# Altium footprint library PCB3.PcbLib: 13 footprints
Each footprint in its own frame and in the unit in brackets; x right, y up, seen from the top. Pads: shape width x height; smd on the part's side, far side on the other; paste and mask are expansions set on the pad; w line width, h text height; cw(c..) or ccw(c..) is an arc to the next point about the centre after c.
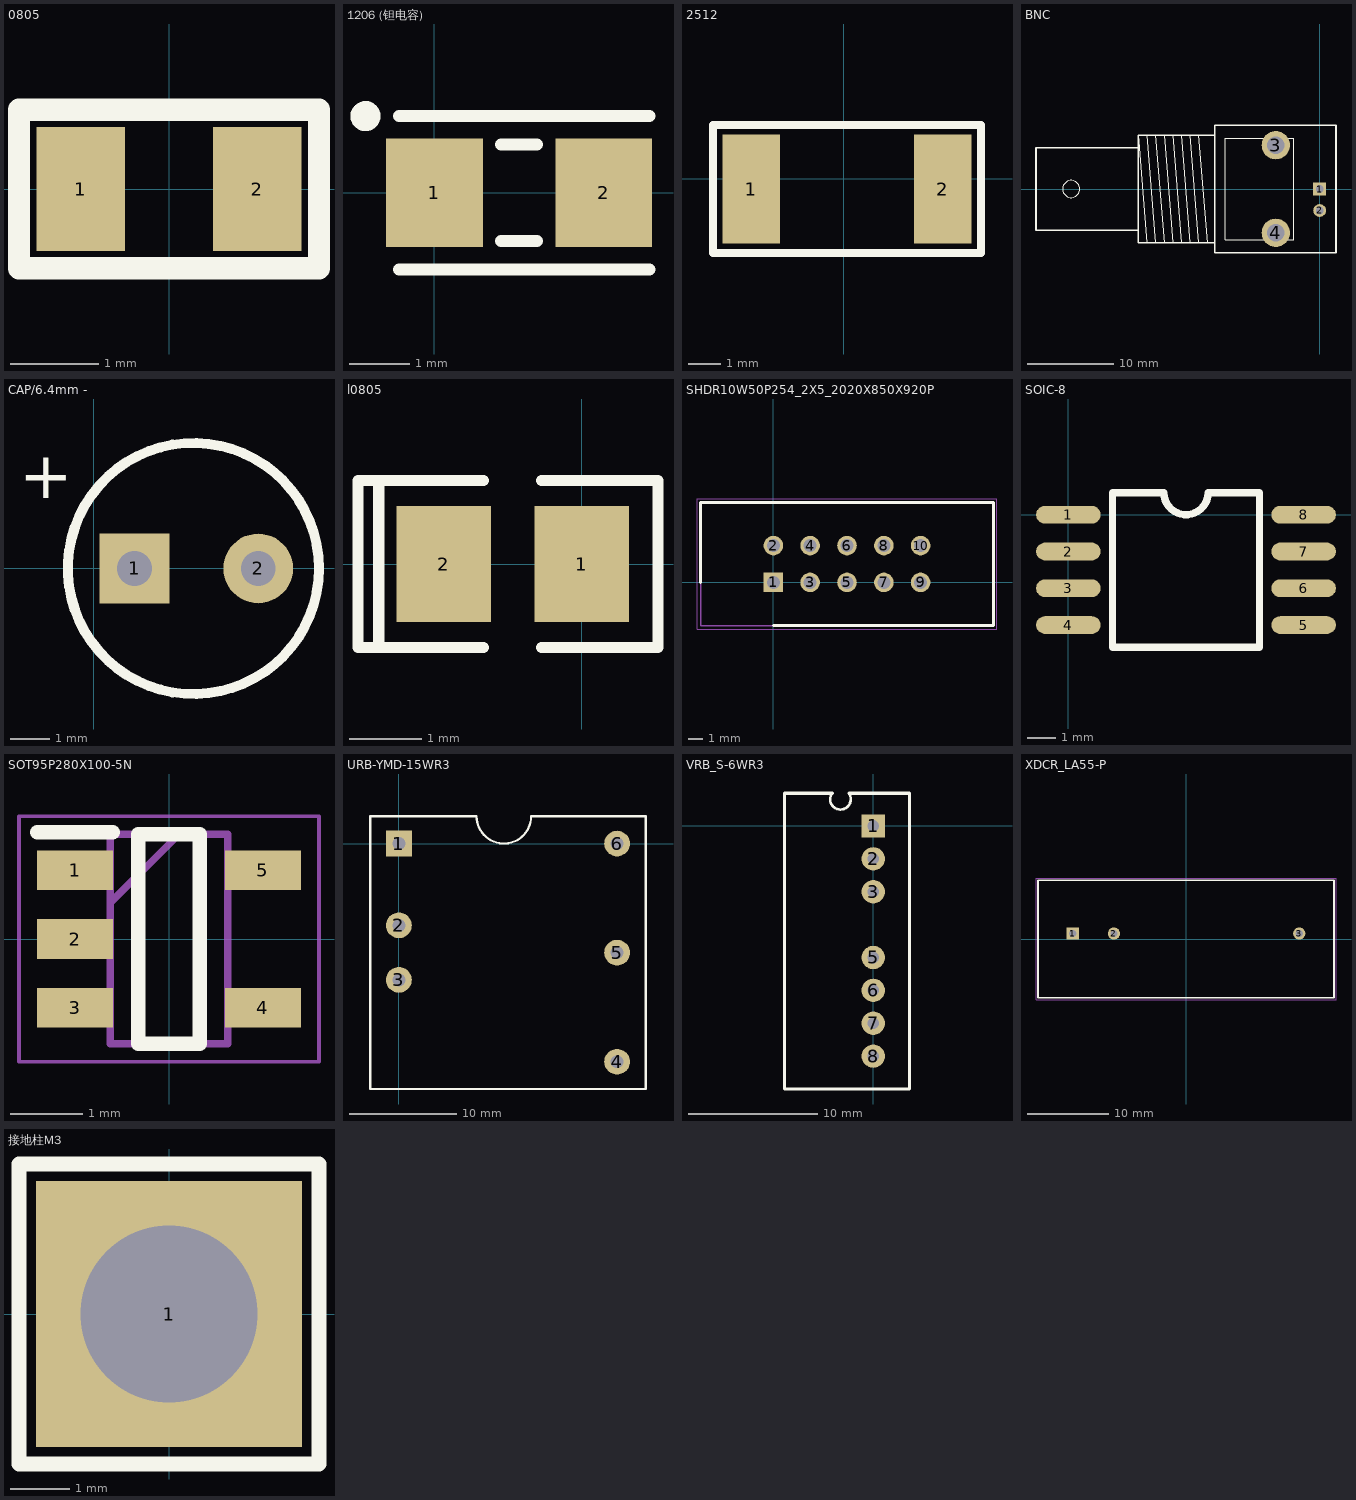
[diagram p0: the footprints below, top view; thin cyan lines are the x and y axes]

## 0805 [mm]
pads (2):
  rect 1x1.4 smd: 1(-1,0) 2(1,0)
Top Overlay:
  lines w0.254: -1.7,-0.9 1.7,-0.9 1.7,0.9 -1.7,0.9 -1.7,0 -1.7,-0.9

## 1206 (钽电容) [mm]
pads (2):
  rect 1.6x1.8 smd: 1(0,0) 2(2.8,0)
Top Overlay:
  circle w0.25: c-1.141,1.27 r0.125
  lines w0.2: -0.585,-1.27 3.556,-1.27 ; -0.585,1.27 3.556,1.27 ; 1.1,-0.8 1.7,-0.8 ; 1.1,0.8 1.7,0.8

## 2512 [mm]
pads (2):
  rect 1.8x3.4 smd: 1(-2.903,-0.324) 2(3.097,-0.324)
Top Overlay:
  lines w0.254: -4.103,-2.324 4.297,-2.324 4.297,1.676 -4.103,1.676 -4.103,-0.324 -4.103,-2.324

## BNC [mm]
pads (4):
  rect 1.5x1.5 hole 0.9: 1(0,0)
  round 1.5 hole 0.9: 2(0,-2.5)
  round 3.3 hole 2: 3(-5.1,5.1) 4(-5.1,-5.1)
Top Overlay:
  circle w0.025: c-28.9,0 r1
  lines w0.025: -20.1,-6.25 -21.1,6.25 ; -20.1,6.25 -19.1,-6.25 ; -19.1,6.25 -18.1,-6.25 ; -18.1,6.25 -17.1,-6.25 ; -17.1,6.25 -16.1,-6.25 ; -16.1,6.25 -15.1,-6.25 ; -15.1,6.25 -14.1,-6.25 ; -14.1,6.25 -13.1,-6.25 ; -21.1,-4.8 -33,-4.8 -33,4.8 -21.1,4.8 ; -21.1,-4.8 -21.1,4.8 ; -21.1,-4.8 -21.1,-6.25 -12.2,-6.25 ; -21.1,4.8 -21.1,6.25 ; -21.1,6.25 -12.2,6.25 ; -12.2,-6.25 -12.2,6.25 ; -12.2,-6.25 -12.2,-7.4 1.9,-7.4 1.9,7.4 -12.2,7.4 -12.2,6.25 ; -11,-5.9 -3,-5.9 -3,5.9 -11,5.9 -11,-5.9
  lines w0.2: -21.1,-4.8 -21.1,4.8 ; -21.1,-4.8 -33,-4.8 -33,4.8 -21.1,4.8 ; -21.1,-4.8 -21.1,-6.25 -12.2,-6.25 ; -21.1,4.8 -21.1,6.25 -12.2,6.25 ; -12.2,-6.25 -12.2,6.25 ; -12.2,-6.25 -12.2,-7.4 1.9,-7.4 1.9,7.4 -12.2,7.4 -12.2,6.25

## CAP/6.4mm - [mil]
pads (2):
  rect 70x70 hole 35: 1(41,0)
  round 70 hole 35: 2(165,0)
Top Overlay:
  circle w10: c100,0 r125.98
  text "+" at -75,55 h80

## l0805 [mm]
pads (2):
  rect 1.3x1.6 smd: 1(0,0) 2(-1.9,0)
Top Overlay:
  lines w0.152: -2.794,-1.15 -2.794,1.15 ; -1.35,-1.15 -3.08,-1.15 -3.08,1.15 -1.35,1.15 ; -0.55,-1.15 1.05,-1.15 1.05,1.15 -0.55,1.15

## SHDR10W50P254_2X5_2020X850X920P [mm]
pads (10):
  rect 1.35x1.35 hole 0.9: 1(0,0)
  round 1.35 hole 0.9: 2(0,2.54) 3(2.54,0) 4(2.54,2.54) 5(5.08,0) 6(5.08,2.54) 7(7.62,0) 8(7.62,2.54) 9(10.16,0) 10(10.16,2.54)
Top Overlay:
  lines w0.2: -5.02,0 -5.02,5.52 15.18,5.52 15.18,-2.98 0,-2.98
Mechanical 13:
  lines w0.1: -5.02,-2.98 15.18,-2.98 15.18,5.52 -5.02,5.52 -5.02,-2.98
Mechanical 15:
  lines w0.05: -5.27,-3.23 15.43,-3.23 15.43,5.77 -5.27,5.77 -5.27,-3.23
3D body "HIF3FC-10PA-2.54DSA_71_.stp": height 9.2, standoff -2.8, extent -5.02,-2.98 15.18,5.52

## SOIC-8 [mil]
pads (8):
  oval 88x24 smd: 1(0,0) 2(0,-50) 3(0,-100) 4(0,-150) 5(320,-150) 6(320,-100) 7(320,-50) 8(320,0)
Top Overlay:
  lines w10: 60,-180 260,-180 260,30 190,30 cw(c160,30) 130,30 60,30 60,-180
3D body "SW3dPS-SOIC8_(ATTINY12).STEP": height 90.55, standoff -0.78, extent -5.2,-180.9 325.21,30.91

## SOT95P280X100-5N [mm]
pads (5):
  rect 1.05x0.55 smd: 1(-1.3,0.95) 2(-1.3,0) 3(-1.3,-0.95) 4(1.3,-0.95) 5(1.3,0.95)
Top Overlay:
  lines w0.2: -1.825,1.475 -0.775,1.475 ; -0.425,-1.45 -0.425,1.45 0.425,1.45 0.425,-1.45 -0.425,-1.45
Mechanical 13:
  lines w0.1: -0.812,0.5 0.138,1.45 ; -0.812,-1.45 -0.812,1.45 0.812,1.45 0.812,-1.45 -0.812,-1.45
Mechanical 15:
  lines w0.05: -2.075,-1.7 -2.075,1.7 2.075,1.7 2.075,-1.7 -2.075,-1.7
3D body "LTC6240HVCS5#TRMPBF.stp": height 1, standoff 0, extent -1.4,-1.45 1.4,1.45

## URB-YMD-15WR3 [mm]
pads (6):
  rect 2.4x2.4 hole 1.2: 1(0,0)
  round 2.4 hole 1.2: 2(0,-7.62) 3(0,-12.7) 4(20.32,-20.32) 5(20.32,-10.16) 6(20.32,0)
Top Overlay:
  lines w0.2: -2.667,-22.86 -2.667,0.254 -2.667,2.54 2.67,2.54 7.239,2.54 ccw(c9.779,2.54) 12.319,2.54 22.987,2.54 22.987,-22.86 2.032,-22.86 -2.667,-22.86

## VRB_S-6WR3 [mm]
pads (7):
  rect 1.8x1.8 hole 0.9: 1(0,0)
  round 1.8 hole 0.9: 2(0,-2.54) 3(0,-5.08) 5(0,-10.16) 6(0,-12.7) 7(0,-15.24) 8(0,-17.78)
Top Overlay:
  lines w0.2: -3.175,2.54 ccw(c-2.54,2.064) -1.905,2.54
  lines w0.254: -3.175,2.54 -6.858,2.54 -6.858,-20.32 0,-20.32 2.794,-20.32 2.794,2.54 -1.873,2.54

## XDCR_LA55-P [mm]
pads (3):
  rect 1.5x1.5 hole 0.9: 1(-13.97,0.675)
  round 1.5 hole 0.9: 2(-8.89,0.675) 3(13.97,0.675)
Top Overlay:
  lines w0.2: -18.25,-7.225 -18.25,7.225 18.25,7.225 18.25,-7.225 -18.25,-7.225
Mechanical 15:
  lines w0.05: -18.5,-7.5 -18.5,7.5 18.5,7.5 18.5,-7.5 -18.5,-7.5

## 接地柱M3 [mm]
pads (1):
  rect 4.5x4.5 hole 3: 1(0,0)
Top Overlay:
  lines w0.254: -2.54,-2.54 -2.54,2.54 2.54,2.54 2.54,-2.54 -2.54,-2.54